# Altium footprint library car_pcb_lib.PcbLib: 26 footprints (part 1 of 2)
Each footprint in its own frame and in the unit in brackets; x right, y up, seen from the top. Pads: shape width x height; smd on the part's side, far side on the other; paste and mask are expansions set on the pad; w line width, h text height; cw(c..) or ccw(c..) is an arc to the next point about the centre after c.
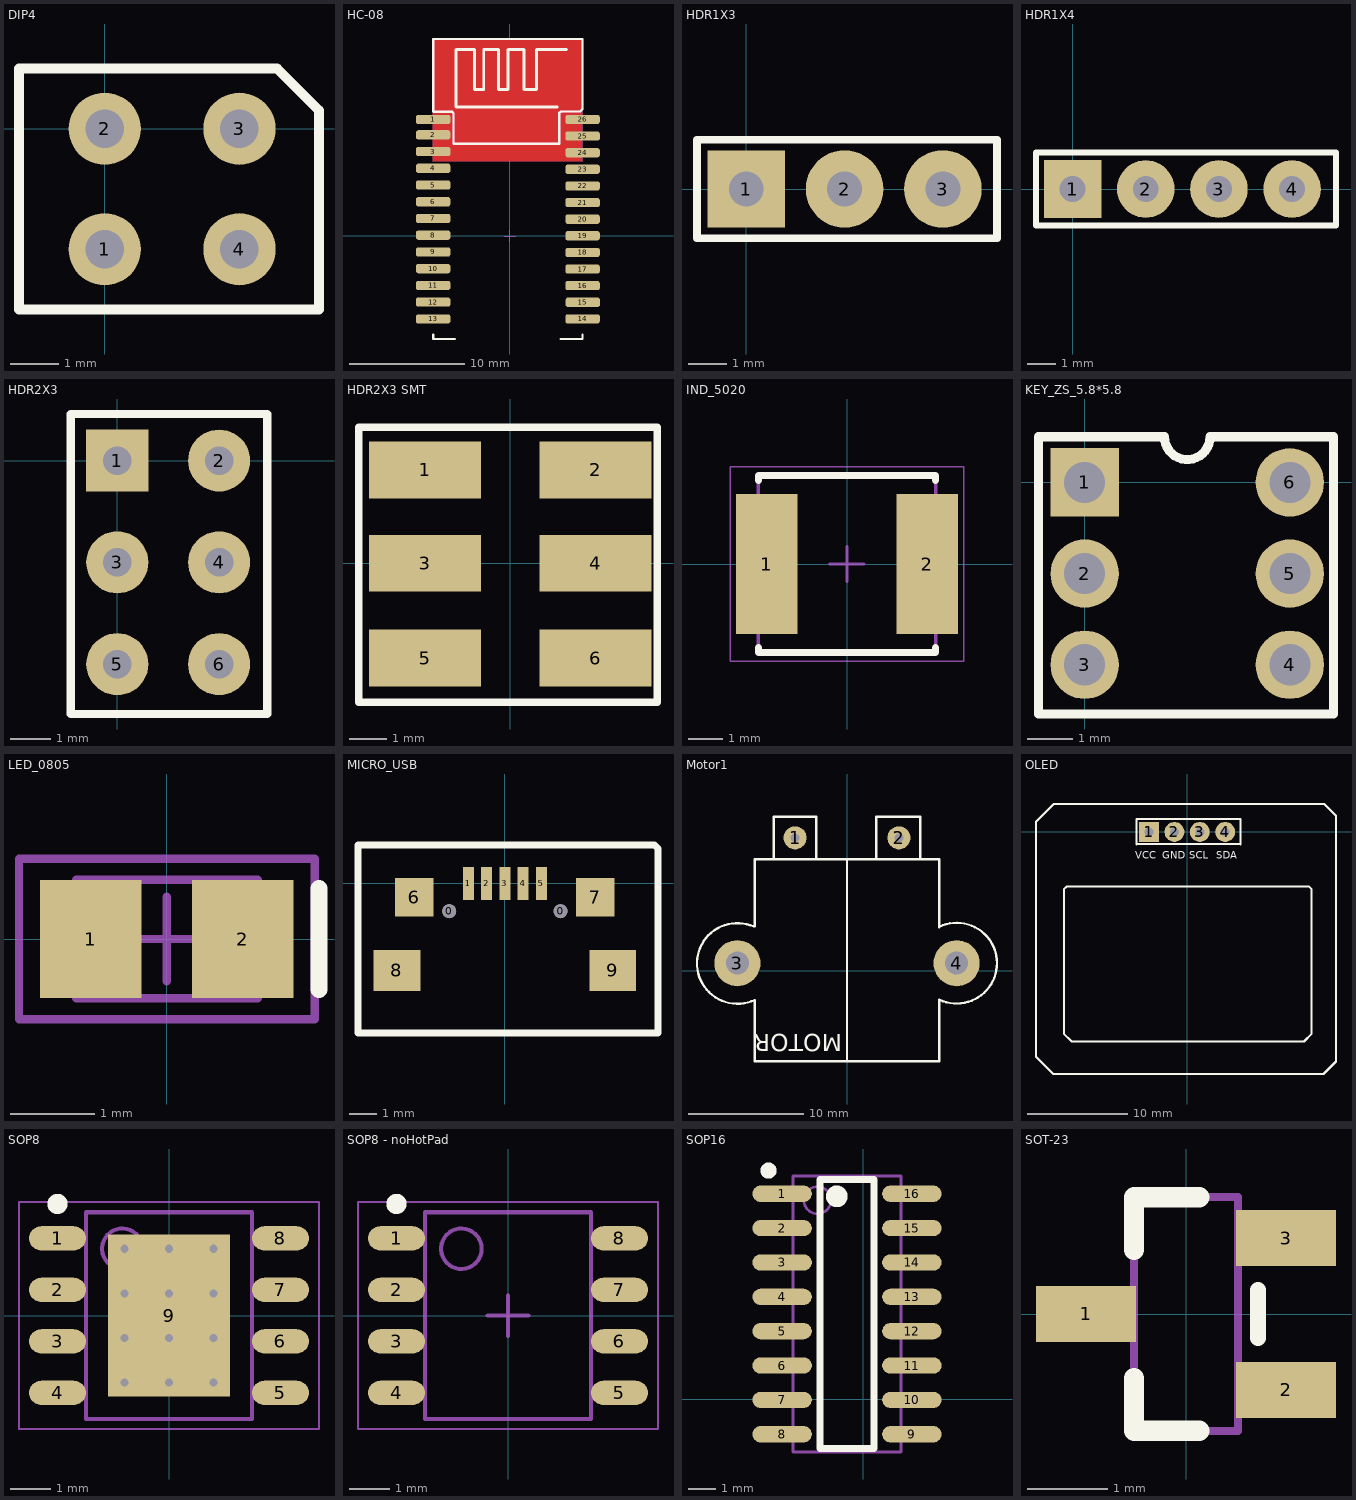
[diagram p0: the footprints below, top view; thin cyan lines are the x and y axes]

## DIP4 [mm]
pads (4):
  round 1.5 hole 0.8: 1(0,-2.5) 2(0,0) 3(2.794,0) 4(2.794,-2.5)
Top Overlay:
  lines w0.2: -1.778,-3.75 4.445,-3.75 4.445,0.381 3.576,1.25 -1.778,1.25 -1.778,-3.75

## HC-08 [mm]
pads (26):
  rrect50% 3x0.8 smd: 1(-6.675,10.1) 2(-6.675,8.765) 3(-6.675,7.309) 4(-6.675,5.853) 5(-6.675,4.398) 6(-6.675,2.942) 7(-6.675,1.486) 8(-6.675,0.03) 9(-6.675,-1.426) 10(-6.675,-2.882) 11(-6.675,-4.338) 12(-6.675,-5.794) 13(-6.675,-7.25) 14(6.325,-7.25) 15(6.35,-5.804) 16(6.325,-4.358) 17(6.325,-2.913) 18(6.325,-1.467) 19(6.325,-0.021) 20(6.325,1.425) 21(6.325,2.871) 22(6.325,4.317) 23(6.325,5.762) 24(6.325,7.208) 25(6.325,8.654) 26(6.325,10.1)
Top Layer:
  pour cut-out: -6.7,17.05 -6.725,17.025 -6.725,6.45 6.375,6.45 6.3,6.525 6.3,17.05
Bottom Layer:
  pour cut-out: -6.7,17.075 -6.725,17.05 -6.725,6.45 6.3,6.45 6.325,6.475 6.325,17.1
Top Overlay:
  lines w0.2: -6.675,-8.6 -6.675,-8.9 -6.675,-9 -4.775,-9 ; -6.675,11 -6.675,17.1 6.325,17.1 6.325,11 ; 4.425,-9 6.325,-9 6.325,-8.6
  lines w0.254: 1.225,12.8 1.225,16.2 ; 2.325,12.7 1.225,12.7 1.225,16.2 ; 2.325,12.8 2.325,16.2 4.925,16.2 ; 4.125,11.2 -4.675,11.2 -4.675,16.2 -3.375,16.2 -3.075,16.2 -3.075,12.7 -2.275,12.7 -2.275,16.2 -1.575,16.2 -0.975,16.2 -0.975,12.7 -0.175,12.7 -0.175,16.2 1.225,16.2
Top Overlay keep-out:
  lines w0.2: 4.3,10.65 4.45,10.8 6.125,10.8 6.325,11 6.325,17.1 -6.675,17.1 -6.675,10.825 -6.625,10.775 -5.025,10.775 -4.9,10.65 -4.9,7.975 4.3,7.975 4.3,10.675
Mechanical 15:
  lines w0.1: -0.5,-0.05 0.5,-0.05 ; 0,-0.55 0,0.45
3D body: height 1.6, standoff 0.1, extent -6.575,-9.1 6.425,17

## HDR1X3 [mm]
pads (3):
  rect 2x2 hole 0.9: 1(0,0)
  round 2 hole 0.9: 2(2.54,0) 3(5.08,0)
Top Overlay:
  lines w0.2: -1.27,-1.27 6.477,-1.27 6.477,1.27 -1.27,1.27 -1.27,-1.27

## HDR1X4 [mm]
pads (4):
  rect 2x2 hole 0.9: 1(0,0)
  round 2 hole 0.9: 2(2.54,0) 3(5.08,0) 4(7.62,0)
Top Overlay:
  lines w0.2: -1.27,-1.27 9.144,-1.27 9.144,1.27 -1.27,1.27 -1.27,-1.27

## HDR2X3 [mm]
pads (6):
  rect 1.524x1.524 hole 0.7: 1(0,0)
  round 1.524 hole 0.7: 2(2.5,0) 3(0,-2.5) 4(2.5,-2.5) 5(0,-5) 6(2.5,-5)
Top Overlay:
  lines w0.2: -1.143,-6.223 3.683,-6.223 3.683,1.143 -1.143,1.143 -1.143,-6.223

## HDR2X3 SMT [mil] "贴片"
pads (6):
  rect 118.11x60 smd: 1(-90,98.43) 2(90,98.43) 3(-90,0) 4(90,0) 5(-90,-100) 6(90,-100)
Top Overlay:
  lines w7.87: -160,-146.57 -160,143.43 155,143.43 155,-146.57 -160,-146.57

## IND_5020 [mm] "Precision Wire Wound Inductor, 2-Leads, Body 5.00x5.00mm, IPC Medium Density"
height 2
pads (2):
  rect 1.8x4.1 smd: 1(-2.35,0) 2(2.35,0)
Top Overlay:
  lines w0.2: -2.6,-2.45 -2.6,-2.6 2.6,-2.6 2.6,-2.45 ; -2.6,2.45 -2.6,2.6 2.6,2.6 2.6,2.45
Mechanical 13:
  lines w0.1: -2.6,-2.6 2.6,-2.6 2.6,2.6 -2.6,2.6 -2.6,-2.6
Mechanical 15:
  lines w0.05: -3.425,-2.85 3.425,-2.85 3.425,2.85 -3.425,2.85 -3.425,-2.85
  lines w0.1: -0.5,0 0.5,0 ; 0,-0.5 0,0.5
3D body "INDP5050X20N.step": height 2.1, standoff 0, extent -2.6,-2.5 2.6,2.5

## KEY_ZS_5.8*5.8 [mm]
pads (6):
  rect 1.5x1.5 hole 0.9: 1(0,0)
  round 1.5 hole 0.9: 2(0,-2) 3(0,-4) 4(4.5,-4) 5(4.5,-2) 6(4.5,0)
Top Overlay:
  lines w0.2: -1.016,-5.08 5.461,-5.08 5.461,1 2.75,1 cw(c2.25,1) 1.75,1 -1.016,1 -1.016,-5.08

## LED_0805 [mm] "Chip LED  Body 2.0x1.2mm, IPC Medium Density"
height 0.7
pads (2):
  rect 1.2x1.4 smd: 1(-0.9,0) 2(0.9,0)
Top Overlay:
  lines w0.2: 1.8,-0.6 1.8,0.6
Mechanical 13:
  lines w0.1: -1.075,-0.7 -1.075,0.7 1.075,0.7 1.075,-0.7 -1.075,-0.7
Mechanical 15:
  lines w0.1: -0.5,0 0.5,0 ; 0,-0.5 0,0.5 ; -1.75,-0.95 -1.75,0.95 1.75,0.95 1.75,-0.95 -1.75,-0.95
3D body: height 0.7, standoff 0, extent -1.075,-0.7 1.075,0.7

## MICRO_USB [mm]
height 3
pads (11):
  round 0.5 hole 0.5: 0(-2.032,-1.016) 0(2.032,-1.016)
  rect 0.4x1.2 smd: 1(-1.333,0) 2(-0.667,0) 3(0,0) 4(0.667,0) 5(1.333,0)
  rect 1.4x1.4 smd: 6(-3.302,-0.508) 7(3.302,-0.508)
  rect 1.7x1.5 smd: 8(-3.937,-3.175) 9(3.937,-3.175)
Top Overlay:
  lines w0.254: -5.359,-5.461 -5.359,1.397 -5.334,1.397 -4.318,1.397 5.461,1.397 5.588,1.27 5.588,-5.461 4.318,-5.461 -5.359,-5.461
3D body "48284.stp": height 2.71, standoff -0.23, extent -4.4,-5.715 4.4,0.016

## Motor1 [mm]
pads (4):
  round 2 hole 0.762: 1(-4.5,11.5) 2(4.5,11.5)
  round 4 hole 2: 3(-9.5,0.635) 4(9.5,0.635)
Top Overlay:
  lines w0.2: -8.073,3.806 ccw(c-9.5,0.61) -7.995,-2.55 ; -8,-2.55 -8,-7.874 8,-7.874 8,-2.53 ; -8,3.806 -8,9.652 -6.35,9.652 ; -2.667,9.652 -2.667,13.335 -6.35,13.335 -6.35,9.652 ; 0,-7.874 0,9.652 ; 2.54,9.652 2.54,13.335 6.35,13.335 6.35,9.652 ; 7.981,3.788 cw(c9.5,0.635) 8.005,-2.53 ; 8,3.75 8,9.652 6.35,9.652 ; -6.35,9.652 6.35,9.652
  text "MOTOR" at -0.406,-5.512 h1.5

## OLED [mm]
pads (4):
  rect 2x2 hole 0.9: 1(-3.81,0)
  round 2 hole 0.9: 2(-1.27,0) 3(1.27,0) 4(3.81,0)
Top Overlay:
  lines w0.2: -5.08,-1.27 -5.08,1.27 5.334,1.27 5.334,-1.27 ; -5.08,-1.202 5.334,-1.202 ; -15.113,-22.479 -15.113,1.016 -13.335,2.794 13.716,2.794 14.887,1.623 14.887,-22.959 13.64,-24.206 -13.386,-24.206 -15.113,-22.479 ; -12.319,-20.193 -12.319,-5.715 -12.065,-5.461 12.192,-5.461 12.446,-5.715 12.446,-20.193 11.684,-20.955 3.556,-20.955 -11.557,-20.955 -12.319,-20.193
  text "SDA" at 2.921,-2.921 h1.27
  text "SCL" at 0.221,-2.921 h1.27
  text "GND" at -2.48,-2.921 h1.27
  text "VCC" at -5.18,-2.921 h1.27

## SOP8 [mm] "SOP, 8-Leads, Body 4.90x3.90mm, Pitch 1.27mm, Thermal Pad 4.50x3.40mm, IPC Medium Density"
height 1.65
pads (9):
  oval 1.4x0.6 smd: 1(-2.75,1.905) 2(-2.75,0.635) 3(-2.75,-0.635) 4(-2.75,-1.905) 5(2.75,-1.905) 6(2.75,-0.635) 7(2.75,0.635) 8(2.75,1.905)
  rect 3x4 smd: 9(0,0)
via -1.1,1.65 diameter 0.5 hole 0.2
via 0,1.65 diameter 0.5 hole 0.2
via 1.1,1.65 diameter 0.5 hole 0.2
via -1.1,0.55 diameter 0.5 hole 0.2
via 0,0.55 diameter 0.5 hole 0.2
via 1.1,0.55 diameter 0.5 hole 0.2
via -1.1,-0.55 diameter 0.5 hole 0.2
via 0,-0.55 diameter 0.5 hole 0.2
via 1.1,-0.55 diameter 0.5 hole 0.2
via -1.1,-1.65 diameter 0.5 hole 0.2
via 0,-1.65 diameter 0.5 hole 0.2
via 1.1,-1.65 diameter 0.5 hole 0.2
Top Overlay:
  circle w0.25: c-2.75,2.755 r0.125
Mechanical 13:
  circle w0.1: c-1.15,1.65 r0.5
  lines w0.1: -2.05,-2.55 -2.05,2.55 2.05,2.55 2.05,-2.55 -2.05,-2.55
Mechanical 15:
  lines w0.05: -3.7,-2.8 -3.7,2.8 3.7,2.8 3.7,-2.8 -3.7,-2.8
  lines w0.1: -0.5,0 0.5,0 ; 0,-0.5 0,0.5
3D body "SOP127P600X165_HS-9N.step": height 1.65, standoff 0, extent -3,-2.55 3,2.55

## SOP8 - noHotPad [mm] "SOP, 8-Leads, Body 4.90x3.90mm, Pitch 1.27mm, Thermal Pad 4.50x3.40mm, IPC Medium Density"
height 1.65
pads (8):
  oval 1.4x0.6 smd: 1(-2.75,1.905) 2(-2.75,0.635) 3(-2.75,-0.635) 4(-2.75,-1.905) 5(2.75,-1.905) 6(2.75,-0.635) 7(2.75,0.635) 8(2.75,1.905)
Top Overlay:
  circle w0.25: c-2.75,2.755 r0.125
Mechanical 13:
  circle w0.1: c-1.15,1.65 r0.5
  lines w0.1: -2.05,-2.55 -2.05,2.55 2.05,2.55 2.05,-2.55 -2.05,-2.55
Mechanical 15:
  lines w0.05: -3.7,-2.8 -3.7,2.8 3.7,2.8 3.7,-2.8 -3.7,-2.8
  lines w0.1: -0.5,0 0.5,0 ; 0,-0.5 0,0.5
3D body "SOP127P600X165_HS-9N.step": height 1.65, standoff 0, extent -3,-2.55 3,2.55

## SOP16 [mm] "CH340G"
height 3
pads (16):
  oval 2.2x0.6 smd: 1(-3,7.595) 2(-3,6.325) 3(-3,5.055) 4(-3,3.785) 5(-3,2.515) 6(-3,1.245) 7(-3,-0.025) 8(-3,-1.295) 9(1.8,-1.295) 10(1.8,-0.025) 11(1.8,1.245) 12(1.8,2.515) 13(1.8,3.785) 14(1.8,5.055) 15(1.8,6.325) 16(1.8,7.595)
Top Overlay:
  circle w0.3: c-3.5,8.45 r0.15
  circle w0.4: c-0.975,7.5 r0.2
  lines w0.254: -1.6,-1.825 -1.6,8.125 0.4,8.125 0.4,-1.825 -1.6,-1.825
Mechanical 13:
  circle w0.1: c-1.695,7.355 r0.5
  lines w0.1: -2.595,-1.955 -2.595,8.255 1.395,8.255 1.395,-1.955 -2.595,-1.955
3D body "User Library-SOIC-16-3.step": height 1.7, standoff 0, extent -3.683,-1.778 2.515,8.128

## SOT-23 [mm]
pads (3):
  rect 1.25x0.7 smd: 1(-1.25,0) 2(1.25,-0.95) 3(1.25,0.95)
Top Overlay:
  lines w0.2: 0.9,-0.3 0.9,0.3
  lines w0.254: -0.65,-0.8 -0.65,-1.46 0.165,-1.46 ; 0.165,1.46 -0.65,1.46 ; -0.65,0.8 -0.65,1.46 ; -0.65,0.8 -0.65,1.46 ; -0.65,0.8 -0.65,1.46
Mechanical 13:
  lines w0.1: -0.65,-1.46 -0.65,1.46 ; -0.65,-1.46 0.65,-1.46 ; -0.65,-1.46 0.65,-1.46 ; -0.65,-1.46 -0.65,1.46 ; -0.65,-1.46 0.65,-1.46 ; -0.65,-1.46 -0.65,1.46 ; -0.65,1.46 0.65,1.46 ; -0.65,1.46 0.65,1.46 ; -0.65,1.46 0.65,1.46 ; 0.65,-1.46 0.65,1.46 ; 0.65,-1.46 0.65,1.46 ; 0.65,-1.46 0.65,1.46
3D body "SOT-23.step": height 1.3, standoff 0, extent -1.5,-1.5 1.5,1.5